# Altium footprint library 1473005-4.PcbLib: 1 footprints
Each footprint in its own frame and in the unit in brackets; x right, y up, seen from the top. Pads: shape width x height; smd on the part's side, far side on the other; paste and mask are expansions set on the pad; w line width, h text height; cw(c..) or ccw(c..) is an arc to the next point about the centre after c.
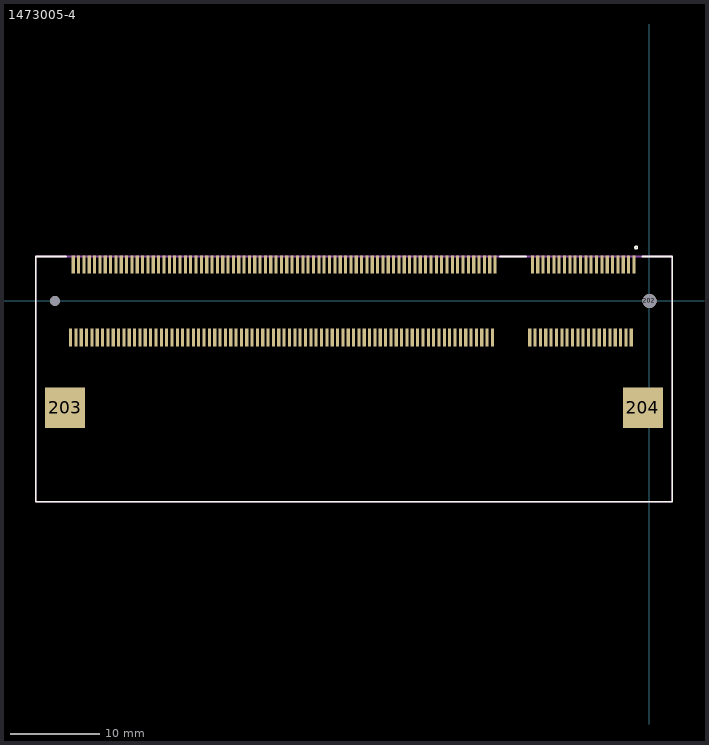
[diagram p0: the footprint, top view; thin cyan lines are the x and y axes]

## 1473005-4 [mm]
pads (204):
  rect 0.35x2 smd: 1(-1.75,4.1) 2(-2.05,-4.1) 3(-2.35,4.1) 4(-2.65,-4.1) 5(-2.95,4.1) 6(-3.25,-4.1) 7(-3.55,4.1) 8(-3.85,-4.1) 9(-4.15,4.1) 10(-4.45,-4.1) 11(-4.75,4.1) 12(-5.05,-4.1) 13(-5.35,4.1) 14(-5.65,-4.1) 15(-5.95,4.1) 16(-6.25,-4.1) 17(-6.55,4.1) 18(-6.85,-4.1) 19(-7.15,4.1) 20(-7.45,-4.1) 21(-7.75,4.1) 22(-8.05,-4.1) 23(-8.35,4.1) 24(-8.65,-4.1) 25(-8.95,4.1) 26(-9.25,-4.1) 27(-9.55,4.1) 28(-9.85,-4.1) 29(-10.15,4.1) 30(-10.45,-4.1) 31(-10.75,4.1) 32(-11.05,-4.1) 33(-11.35,4.1) 34(-11.65,-4.1) 35(-11.95,4.1) 36(-12.25,-4.1) 37(-12.55,4.1) 38(-12.85,-4.1) 39(-13.15,4.1) 40(-13.45,-4.1) 41(-17.35,4.1) 42(-17.65,-4.1) 43(-17.95,4.1) 44(-18.25,-4.1) 45(-18.55,4.1) 46(-18.85,-4.1) 47(-19.15,4.1) 48(-19.45,-4.1) 49(-19.75,4.1) 50(-20.05,-4.1) 51(-20.35,4.1) 52(-20.65,-4.1) 53(-20.95,4.1) 54(-21.25,-4.1) 55(-21.55,4.1) 56(-21.85,-4.1) 57(-22.15,4.1) 58(-22.45,-4.1) 59(-22.75,4.1) 60(-23.05,-4.1) 61(-23.35,4.1) 62(-23.65,-4.1) 63(-23.95,4.1) 64(-24.25,-4.1) 65(-24.55,4.1) 66(-24.85,-4.1) 67(-25.15,4.1) 68(-25.45,-4.1) 69(-25.75,4.1) 70(-26.05,-4.1) 71(-26.35,4.1) 72(-26.65,-4.1) 73(-26.95,4.1) 74(-27.25,-4.1) 75(-27.55,4.1) 76(-27.85,-4.1) 77(-28.15,4.1) 78(-28.45,-4.1) 79(-28.75,4.1) 80(-29.05,-4.1) 81(-29.35,4.1) 82(-29.65,-4.1) 83(-29.95,4.1) 84(-30.25,-4.1) 85(-30.55,4.1) 86(-30.85,-4.1) 87(-31.15,4.1) 88(-31.45,-4.1) 89(-31.75,4.1) 90(-32.05,-4.1) 91(-32.35,4.1) 92(-32.65,-4.1) 93(-32.95,4.1) 94(-33.25,-4.1) 95(-33.55,4.1) 96(-33.85,-4.1) 97(-34.15,4.1) 98(-34.45,-4.1) 99(-34.75,4.1) 100(-35.05,-4.1) 101(-35.35,4.1) 102(-35.65,-4.1) 103(-35.95,4.1) 104(-36.25,-4.1) 105(-36.55,4.1) 106(-36.85,-4.1) 107(-37.15,4.1) 108(-37.45,-4.1) 109(-37.75,4.1) 110(-38.05,-4.1) 111(-38.35,4.1) 112(-38.65,-4.1) 113(-38.95,4.1) 114(-39.25,-4.1) 115(-39.55,4.1) 116(-39.85,-4.1) 117(-40.15,4.1) 118(-40.45,-4.1) 119(-40.75,4.1) 120(-41.05,-4.1) 121(-41.35,4.1) 122(-41.65,-4.1) 123(-41.95,4.1) 124(-42.25,-4.1) 125(-42.55,4.1) 126(-42.85,-4.1) 127(-43.15,4.1) 128(-43.45,-4.1) 129(-43.75,4.1) 130(-44.05,-4.1) 131(-44.35,4.1) 132(-44.65,-4.1) 133(-44.95,4.1) 134(-45.25,-4.1) 135(-45.55,4.1) 136(-45.85,-4.1) 137(-46.15,4.1) 138(-46.45,-4.1) 139(-46.75,4.1) 140(-47.05,-4.1) 141(-47.35,4.1) 142(-47.65,-4.1) 143(-47.95,4.1) 144(-48.25,-4.1) 145(-48.55,4.1) 146(-48.85,-4.1) 147(-49.15,4.1) 148(-49.45,-4.1) 149(-49.75,4.1) 150(-50.05,-4.1) 151(-50.35,4.1) 152(-50.65,-4.1) 153(-50.95,4.1) 154(-51.25,-4.1) 155(-51.55,4.1) 156(-51.85,-4.1) 157(-52.15,4.1) 158(-52.45,-4.1) 159(-52.75,4.1) 160(-53.05,-4.1) 161(-53.35,4.1) 162(-53.65,-4.1) 163(-53.95,4.1) 164(-54.25,-4.1) 165(-54.55,4.1) 166(-54.85,-4.1) 167(-55.15,4.1) 168(-55.45,-4.1) 169(-55.75,4.1) 170(-56.05,-4.1) 171(-56.35,4.1) 172(-56.65,-4.1) 173(-56.95,4.1) 174(-57.25,-4.1) 175(-57.55,4.1) 176(-57.85,-4.1) 177(-58.15,4.1) 178(-58.45,-4.1) 179(-58.75,4.1) 180(-59.05,-4.1) 181(-59.35,4.1) 182(-59.65,-4.1) 183(-59.95,4.1) 184(-60.25,-4.1) 185(-60.55,4.1) 186(-60.85,-4.1) 187(-61.15,4.1) 188(-61.45,-4.1) 189(-61.75,4.1) 190(-62.05,-4.1) 191(-62.35,4.1) 192(-62.65,-4.1) 193(-62.95,4.1) 194(-63.25,-4.1) 195(-63.55,4.1) 196(-63.85,-4.1) 197(-64.15,4.1) 198(-64.45,-4.1) 199(-64.75,4.1) 200(-65.05,-4.1)
  round 1.1 hole 1.1: 201(-66.8,0)
  round 1.6 hole 1.6: 202(0,0)
  rect 4.5x4.6 smd: 203(-65.65,-12) 204(-0.75,-12)
L26-Silk Screen Top (Multiple PADS layers...):
  circle w0.2: c-1.505,6 r0.138
  lines w0.2: -65.571,5 -68.95,5 -68.95,-22.55 2.55,-22.55 2.55,5 -0.811,5 ; -16.8,5 -13.843,5
L15 (Multiple PADS layers...):
  lines w0.2: -68.95,-22.55 -68.95,5 2.55,5 2.55,-22.55 -68.95,-22.55